# EAGLE library part TE_DE9_RECEPTACLE (library TE_Conn_DE9)
TE Conn. DE9 Board-Mount Receptacle (female)
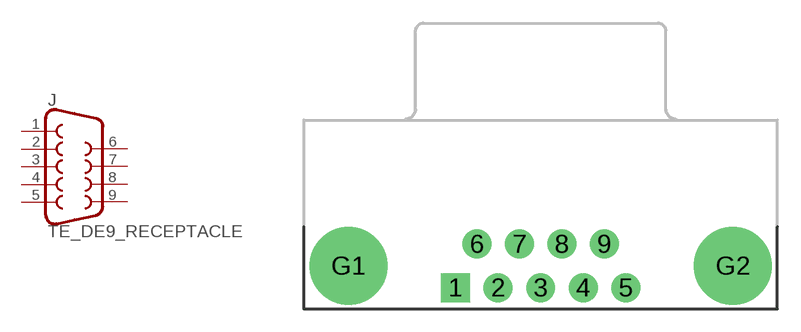
[diagram p0: symbol with the pads of TE_1734354-1; footprint TE_1734354-1]

Designator prefix J

## TE_DE9_RECEPTACLE1734354-1 (PART_NUM: 1734354-1)  [TE_1734354-1]
1  1  pas
2  2  pas
3  3  pas
4  4  pas
5  5  pas
6  6  pas
7  7  pas
8  8  pas
9  9  pas

## Footprint TE_1734354-1 (pad centres in mm)
Receptacle (female) Assembly, 9 Posn, Right Angle, 8.08mm[0.318in] Series, Amplimite, with screwlocks
drill 1.09 pad 1.88 square: 1 -5.54,-1.42
drill 1.09 pad 1.88: 2 -2.77,-1.42; 3 0,-1.42; 4 2.77,-1.42; 5 5.54,-1.42; 6 -4.15,1.42; 7 -1.38,1.42; 8 1.38,1.42; 9 4.15,1.42
drill 3.18 pad 5.08: G1 -12.5,0; G2 12.5,0